# EAGLE library part OPTOCOUPLER-PC827 (library p.peter-ics)
SHARP OPTO COUPLER
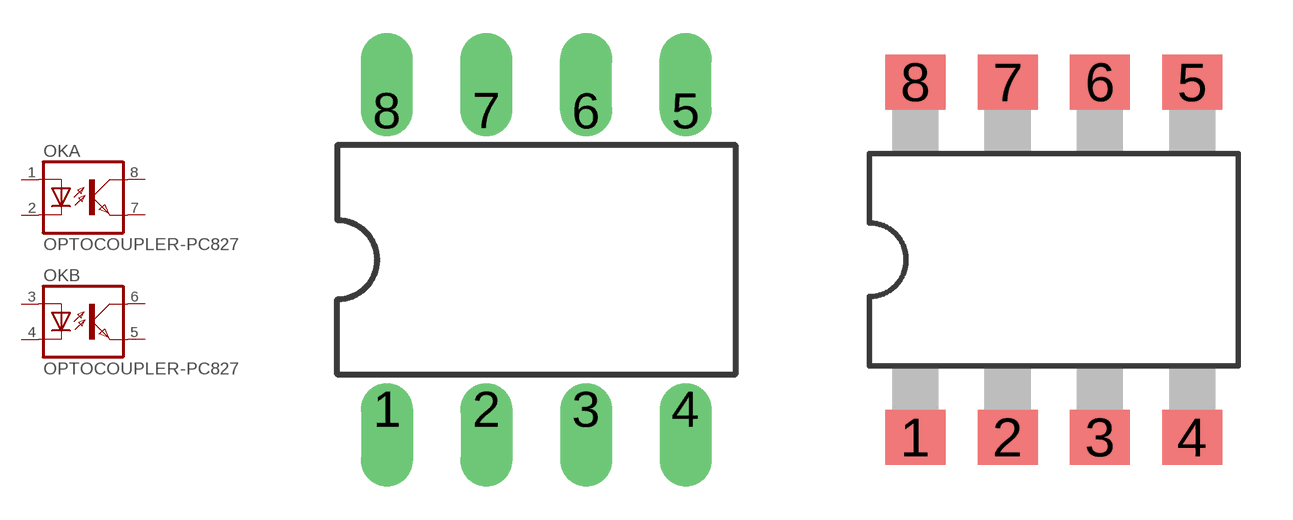
[diagram p10: symbol with the pads of DIL08; footprints DIL08, SMD08]

Designator prefix OK; gates A=OPTOCOUPLER B=OPTOCOUPLER

## OPTOCOUPLER-PC827DIL (OC_FARNELL: unknown; OC_NEWARK: unknown)  [DIL08]
1  A:A  pas
2  A:C  pas
3  B:A  pas
4  B:C  pas
5  B:EMIT  pas
6  B:COL  pas
7  A:EMIT  pas
8  A:COL  pas

## OPTOCOUPLER-PC827SMD  [SMD08]
Pads as for DIL08

## Footprint DIL08 (pad centres in mm)
Dual In Line Package
drill 0.813 offset: 1 -3.81,-3.81; 2 -1.27,-3.81; 3 1.27,-3.81; 4 3.81,-3.81; 5 3.81,3.81; 6 1.27,3.81; 7 -1.27,3.81; 8 -3.81,3.81

## Footprint SMD08 (pad centres in mm)
Dual In Line Package
smd 1.651 x 1.524: 1 -3.81,-4.889; 2 -1.27,-4.889; 3 1.27,-4.889; 4 3.81,-4.889; 5 3.81,4.889; 6 1.27,4.889; 7 -1.27,4.889; 8 -3.81,4.889